# Altium footprint library S7CAS_LIB2023.PcbLib: 100 footprints (part 1 of 7)
Each footprint in its own frame and in the unit in brackets; x right, y up, seen from the top. Pads: shape width x height; smd on the part's side, far side on the other; paste and mask are expansions set on the pad; w line width, h text height; cw(c..) or ccw(c..) is an arc to the next point about the centre after c.
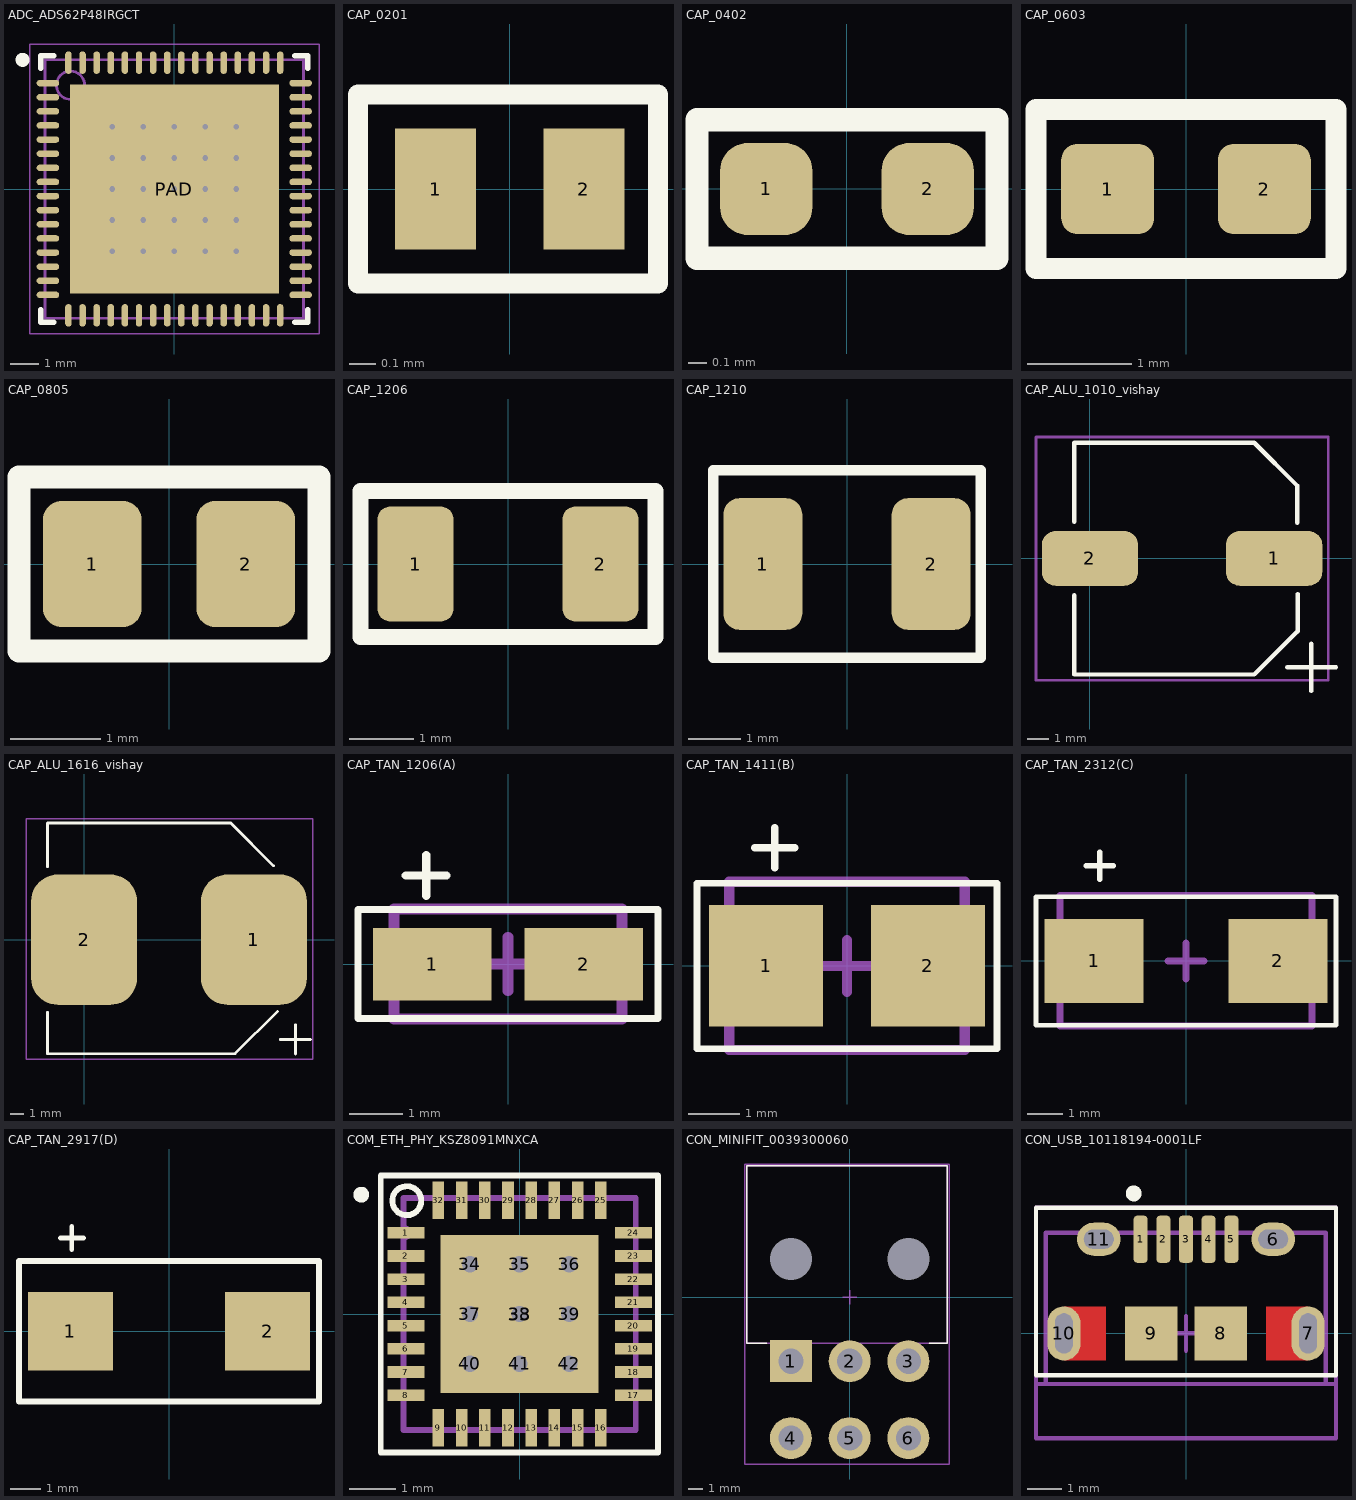
[diagram p0: the footprints below, top view; thin cyan lines are the x and y axes]

## ADC_ADS62P48IRGCT [mm] "QFN, 64-Leads, Body 9,00x9,00mm, Pitch 0,50mm, Thermal Pad 7,40x7,40mm, IPC Medium Density"
height 1
pads (65):
  oval 0.8x0.23 smd mask+0.07: 1(-4.475,3.75) 2(-4.475,3.25) 3(-4.475,2.75) 4(-4.475,2.25) 5(-4.475,1.75) 6(-4.475,1.25) 7(-4.475,0.75) 8(-4.475,0.25) 9(-4.475,-0.25) 10(-4.475,-0.75) 11(-4.475,-1.25) 12(-4.475,-1.75) 13(-4.475,-2.25) 14(-4.475,-2.75) 15(-4.475,-3.25) 16(-4.475,-3.75) 33(4.475,-3.75) 34(4.475,-3.25) 35(4.475,-2.75) 36(4.475,-2.25) 37(4.475,-1.75) 38(4.475,-1.25) 39(4.475,-0.75) 40(4.475,-0.25) 41(4.475,0.25) 42(4.475,0.75) 43(4.475,1.25) 44(4.475,1.75) 45(4.475,2.25) 46(4.475,2.75) 47(4.475,3.25) 48(4.475,3.75)
  oval 0.23x0.8 smd mask+0.07: 17(-3.75,-4.475) 18(-3.25,-4.475) 19(-2.75,-4.475) 20(-2.25,-4.475) 21(-1.75,-4.475) 22(-1.25,-4.475) 23(-0.75,-4.475) 24(-0.25,-4.475) 25(0.25,-4.475) 26(0.75,-4.475) 27(1.25,-4.475) 28(1.75,-4.475) 29(2.25,-4.475) 30(2.75,-4.475) 31(3.25,-4.475) 32(3.75,-4.475) 49(3.75,4.475) 50(3.25,4.475) 51(2.75,4.475) 52(2.25,4.475) 53(1.75,4.475) 54(1.25,4.475) 55(0.75,4.475) 56(0.25,4.475) 57(-0.25,4.475) 58(-0.75,4.475) 59(-1.25,4.475) 60(-1.75,4.475) 61(-2.25,4.475) 62(-2.75,4.475) 63(-3.25,4.475) 64(-3.75,4.475)
  rect 7.4x7.4 smd mask+0.07: PAD(0,0)
via 2.2,-2.2 diameter 0.5 hole 0.2
via 1.1,-2.2 diameter 0.5 hole 0.2
via 0,-2.2 diameter 0.5 hole 0.2
via -1.1,-2.2 diameter 0.5 hole 0.2
via -2.2,-2.2 diameter 0.5 hole 0.2
via 2.2,-1.1 diameter 0.5 hole 0.2
via 1.1,-1.1 diameter 0.5 hole 0.2
via 0,-1.1 diameter 0.5 hole 0.2
via -1.1,-1.1 diameter 0.5 hole 0.2
via -2.2,-1.1 diameter 0.5 hole 0.2
via 2.2,0 diameter 0.5 hole 0.2
via 1.1,0 diameter 0.5 hole 0.2
via 0,0 diameter 0.5 hole 0.2
via -1.1,0 diameter 0.5 hole 0.2
via -2.2,0 diameter 0.5 hole 0.2
via 2.2,1.1 diameter 0.5 hole 0.2
via 1.1,1.1 diameter 0.5 hole 0.2
via 0,1.1 diameter 0.5 hole 0.2
via -1.1,1.1 diameter 0.5 hole 0.2
via -2.2,1.1 diameter 0.5 hole 0.2
via 2.2,2.2 diameter 0.5 hole 0.2
via 1.1,2.2 diameter 0.5 hole 0.2
via 0,2.2 diameter 0.5 hole 0.2
via -1.1,2.2 diameter 0.5 hole 0.2
via -2.2,2.2 diameter 0.5 hole 0.2
Top Overlay:
  circle w0.25: c-5.375,4.575 r0.125
  lines w0.2: -4.725,-4.275 -4.725,-4.725 -4.275,-4.725 ; -4.725,4.275 -4.725,4.725 -4.275,4.725 ; 4.275,-4.725 4.725,-4.725 4.725,-4.275 ; 4.275,4.725 4.725,4.725 4.725,4.275
Mechanical 13:
  circle w0.1: c-3.675,3.675 r0.5
  lines w0.1: -4.575,-4.575 4.575,-4.575 4.575,4.575 -4.575,4.575 -4.575,-4.575
Mechanical 15:
  lines w0.05: -5.125,-5.125 5.125,-5.125 5.125,5.125 -5.125,5.125 -5.125,-5.125
  lines w0.1: -0.5,0 0.5,0 ; 0,-0.5 0,0.5
3D body: height 1, standoff 0.08, extent -4.575,-4.575 4.575,4.575

## CAP_0201 [mil]
pads (2):
  rect 12x18 smd: 1(-11,0) 2(11,0)
Top Overlay:
  lines w3: -22.5,-14 22,-14 22,14 -22.5,14 -22.5,-14
3D body "Cap0201.step": height 11.81, standoff 0, extent -11.81,-5.81 11.81,6

## CAP_0402 [mil]
pads (2):
  rrect60% 20x20 smd: 1(-17.5,0) 2(17.5,0)
Top Overlay:
  lines w5: -32.5,-15 -32.5,15 32.5,15 32.5,-15 -32.5,-15
3D body "Cap0402.step": height 19.68, standoff 0, extent -19.37,-9.69 20,10

## CAP_0603 [mil]
pads (2):
  rrect35% 35x34 smd: 1(-29.5,0) 2(29.5,0)
Top Overlay:
  lines w7.87: -56.5,-30 -56.5,30 56.5,30 56.5,-30 -56.5,-30
3D body "Cap0603.step": height 35.43, standoff 0, extent -31.5,-15.75 31.49,15.75

## CAP_0805 [mil]
pads (2):
  rrect37% 43x55 smd: 1(-33.5,0) 2(33.5,0)
Top Overlay:
  lines w10: -65.5,-38 65.5,-38 65.5,38 -65.5,38 -65.5,-38
3D body "Cap0805.step": height 49.21, standoff 0, extent -38.74,-24.21 40,25

## CAP_1206 [mil]
pads (2):
  rrect34% 47x71 smd: 1(-57,0) 2(57,0)
Top Overlay:
  lines w10: -91,-45 -91,45 91,45 91,-45 -91,-45
3D body "Cap1206.step": height 49.21, standoff 0, extent -61.99,-30.99 64,32

## CAP_1210 [mm]
pads (2):
  rrect40% 1.5x2.5 smd: 1(-1.6,0) 2(1.6,0)
Top Overlay:
  lines w0.2: -2.54,-1.778 -2.54,1.778 2.54,1.778 2.54,-1.778 -2.54,-1.778
3D body "cap1210.step": height 2.5, standoff 0, extent -1.575,-1.245 1.625,1.255

## CAP_ALU_1010_vishay [mm]
pads (2):
  rrect50% 4.4x2.5 smd: 1(8.4,0) 2(0,0)
Top Overlay:
  lines w0.2: -0.725,-5.3 7.5,-5.3 9.45,-3.35 ; -0.725,-5.275 -0.725,-1.675 ; -0.725,1.675 -0.725,5.275 7.5,5.275 9.45,3.325 9.45,1.625 ; 9,-4.975 11.225,-4.975 ; 9.475,-3.325 9.475,-1.625 ; 10.1,-6.05 10.1,-3.9
Drill Guide:
  text "Date : 2013-04-17" at -0.975,-7.95 h0.8
  text "Created by : Alexandre Gaudet" at -1.025,-6.3 h0.8
  text "Verified by : Alexandre Imbeault" at -1,-7.15 h0.8
Mechanical 15:
  lines w0.127: -2.464,-5.563 -2.464,5.537 10.871,5.537 10.871,-5.563 -2.464,-5.563
3D body "User Library-ALU-G.STEP": height 10.2, standoff 0, extent -1.4,-5.175 10.2,5.125

## CAP_ALU_1616_vishay [mm]
pads (2):
  rrect50% 7.8x9.6 smd: 1(12.5,0) 2(0,0)
Top Overlay:
  lines w0.2: -2.7,-5.35 -2.7,-8.4 11.125,-8.4 14.238,-5.288 ; -2.7,5.375 -2.7,8.6 10.8,8.6 13.962,5.437 ; 14.45,-7.35 16.675,-7.35 ; 15.575,-8.425 15.575,-6.275
Drill Guide:
  text "Verified by : Alexandre Imbeault" at 0.476,-10.825 h1
  text "Created by : Alexandre Gaudet" at 0.475,-9.675 h1
  text "Date : 2013-04-17" at 0.475,-11.95 h1
Mechanical 15:
  lines w0.1: -4.275,-8.825 -4.275,8.925 16.85,8.925 16.85,-8.825 -4.275,-8.825
3D body "SW3dPS-capacitor size J16.STEP": height 16.5, standoff -0.01, extent -2.7,-8.4 15,8.6

## CAP_TAN_1206(A) [mm]
pads (2):
  rect 2.2x1.35 smd: 1(-1.41,0) 2(1.41,0)
Top Overlay:
  lines w0.127: -2.794,-1.016 -2.794,1.016 2.794,1.016 2.794,-1.016 -2.794,-1.016
  lines w0.152: -1.905,1.651 -1.143,1.651 ; -1.524,1.27 -1.524,2.032
Mechanical 1:
  lines w0.2: -0.5,0 0,0 ; 0,-0.5 0,0 ; 0,0.5 0,0 ; 0.5,0 0,0 ; -2.125,-1.025 -2.125,1.025 2.125,1.025 2.125,-1.025 -2.125,-1.025
3D body "User Library-Tantalum Capacitor Case A.STEP": height 1.67, standoff 0.02, extent -1.799,-0.827 1.591,0.773

## CAP_TAN_1411(B) [mm]
pads (2):
  rect 2.21x2.35 smd: 1(-1.565,0) 2(1.565,0)
Top Overlay:
  lines w0.127: -2.9,-1.6 2.9,-1.6 2.9,1.6 -2.9,1.6 -2.9,-1.6
  lines w0.152: -1.778,2.286 -1.016,2.286 ; -1.397,1.905 -1.397,2.667
Mechanical 1:
  lines w0.2: -0.5,0 0,0 ; 0,-0.5 0,0 ; 0,0.5 0,0 ; 0.5,0 0,0 ; -2.275,-1.625 2.275,-1.625 2.275,1.625 -2.275,1.625 -2.275,-1.625
3D body "User Library-QT02752.step": height 1.92, standoff 0.01, extent -1.831,-1.4 1.832,1.4

## CAP_TAN_2312(C) [mm]
pads (2):
  rect 2.77x2.35 smd: 1(-2.57,0) 2(2.57,0)
Top Overlay:
  lines w0.127: -4.2,-1.8 -4.2,1.8 4.2,1.8 4.2,-1.8 -4.2,-1.8
  lines w0.152: -2.794,2.667 -2.032,2.667 ; -2.413,2.286 -2.413,3.048
Mechanical 1:
  lines w0.2: -0.5,0 0,0 ; 0,-0.5 0,0 ; 0,0.5 0,0 ; 0.5,0 0,0 ; -3.525,-1.825 -3.525,1.825 3.525,1.825 3.525,-1.825 -3.525,-1.825
3D body "User Library-C_case.STEP": height 2.7, standoff 0, extent -3.05,-1.675 3.05,1.675

## CAP_TAN_2917(D) [mm]
pads (2):
  rect 2.77x2.55 smd: 1(-3.22,0)
  rect 2.77x2.55 smd paste-0.3 mask-0.11: 2(3.22,0)
Top Overlay:
  lines w0.152: -3.556,3.048 -2.794,3.048 ; -3.175,2.667 -3.175,3.429
  lines w0.2: -4.9,-2.3 -4.9,2.3 4.9,2.3 4.9,-2.3 -4.9,-2.3
3D body "CapTantCASE_D.step": height 3.1, standoff 0, extent -3.673,-2.3 3.927,2.3

## COM_ETH_PHY_KSZ8091MNXCA [mm]
pads (42):
  rect 0.8x0.25 smd: 1(-2.45,1.75) 2(-2.45,1.25) 3(-2.45,0.75) 4(-2.45,0.25) 5(-2.45,-0.25) 6(-2.45,-0.75) 7(-2.45,-1.25) 8(-2.45,-1.75) 17(2.45,-1.75) 18(2.45,-1.25) 19(2.45,-0.75) 20(2.45,-0.25) 21(2.45,0.25) 22(2.45,0.75) 23(2.45,1.25) 24(2.45,1.75)
  rect 0.25x0.8 smd: 9(-1.75,-2.45) 10(-1.25,-2.45) 11(-0.75,-2.45) 12(-0.25,-2.45) 13(0.25,-2.45) 14(0.75,-2.45) 15(1.25,-2.45) 16(1.75,-2.45) 25(1.75,2.45) 26(1.25,2.45) 27(0.75,2.45) 28(0.25,2.45) 29(-0.25,2.45) 30(-0.75,2.45) 31(-1.25,2.45) 32(-1.75,2.45)
  rrect0% 3.4x3.4 smd: 33(0,0)
  round 0.6 hole 0.35: 34(-1.07,1.07) 35(0,1.07) 36(1.07,1.07) 37(-1.07,0) 38(0,0) 39(1.07,0) 40(-1.07,-1.07) 41(0,-1.07) 42(1.07,-1.07)
Top Overlay:
  circle w0.2: c-3.41,2.57 r0.07
  circle w0.127: c-2.43,2.44 r0.311
  lines w0.127: -2.99,-2.98 -2.99,2.98 2.98,2.98 2.98,-2.98 -2.99,-2.98
Top Paste:
  region: 0.635,-0.635 1.505,-0.635 1.505,-1.505 0.635,-1.505
  region: -0.435,-0.635 0.435,-0.635 0.435,-1.505 -0.435,-1.505
  region: -1.505,-0.635 -0.635,-0.635 -0.635,-1.505 -1.505,-1.505
  region: -1.505,0.435 -0.635,0.435 -0.635,-0.435 -1.505,-0.435
  region: -0.435,0.435 0.435,0.435 0.435,-0.435 -0.435,-0.435
  region: 0.635,0.435 1.505,0.435 1.505,-0.435 0.635,-0.435
  region: 0.635,1.505 1.505,1.505 1.505,0.635 0.635,0.635
  region: -0.435,1.505 0.435,1.505 0.435,0.635 -0.435,0.635
  region: -1.505,1.505 -0.635,1.505 -0.635,0.635 -1.505,0.635
Mechanical 1:
  lines w0.127: -2.5,-2.5 -2.5,1.625 -2.25,1.75 -2.5,1.875 -2.5,2.5 2.5,2.5 2.5,-2.5 -2.5,-2.5
3D body "QFN-32-5x5 - EQ (2).step": height 0.9, standoff 0.05, extent -2.5,-2.5 2.5,2.5

## CON_MINIFIT_0039300060 [mm]
pads (8):
  round 0 hole 2.997 unplated mask+0.07: 0(-4.2,2.718) 0(4.2,2.718)
  rect 3x3 hole 1.803 mask+0.07: 1(-4.2,-4.583)
  round 3 hole 1.803 mask+0.07: 2(0,-4.583) 3(4.2,-4.583) 4(-4.2,-10.082) 5(0,-10.082) 6(4.2,-10.082)
Top Overlay:
  lines w0.127: -5.925,-3.302 -7.366,-3.302 -7.366,9.398 6.985,9.398 6.985,-3.302 5.7,-3.302
Mechanical 1:
  lines w0.1: -7.366,-3.302 6.985,-3.302 6.985,9.398 -7.366,9.398 -7.366,-3.302
Mechanical 15:
  lines w0.1: -0.5,0 0.5,0 ; 0,-0.5 0,0.5 ; -7.493,-11.938 7.112,-11.938 7.112,9.525 -7.493,9.525 -7.493,-11.938
3D body "039300060.stp": height 11.4, standoff -3.6, extent -7.3,-10.617 6.9,9.317

## CON_USB_10118194-0001LF [mm]
pads (11):
  rrect50% 0.4x1.35 smd paste+0 mask+0.05: 1(-1.3,2.7) 2(-0.65,2.7) 3(0,2.7) 4(0.65,2.7) 5(1.3,2.7)
  rrect100% 1.25x0.95 hole 0.55 slot 0.85 at 0 deg mask+0.05: 6(2.5,2.7) 11(-2.5,2.7)
  rrect100% 0.95x1.55 hole 0.5 slot 1.15 at 90 deg mask+0.05: 7(3.5,0) 10(-3.5,0)
  rect 1.5x1.55 smd paste+0 mask+0.05: 8(1,0) 9(-1,0)
Top Layer:
  region: -2.3,0.775 -3.5,0.775 -3.5,-0.775 -2.3,-0.775
  rectangle: 2.3,-0.775 3.5,0.775
Top Overlay:
  circle w0.254: c-1.499,4.013 r0.1
  lines w0.127: -4.3,-1.2 4.3,-1.2 4.3,0.05 4.3,2.55 4.3,3.6 -4.3,3.6 -4.3,-1.2
Top Paste:
  region: -2.3,0.775 -3.175,0.775 -3.175,-0.775 -2.3,-0.775
  rectangle: 2.3,-0.775 3.175,0.775
Top Solder:
  region: -2.25,0.825 -3.55,0.825 -3.55,-0.825 -2.25,-0.825
  rectangle: 2.25,-0.825 3.55,0.825
Mechanical 1:
  lines w0.127: -4.3,-1.45 -4.025,-1.45 ; 4.025,-1.45 4.3,-1.45 ; -4.025,-1.45 -4,-1.45 4,-1.45 4,2.89 -4.025,2.89 -4.025,-1.45
  text "Board Edge" at -2.9,-2.4 h0.6
Mechanical 15:
  lines w0.127: -0.5,0 0,0 ; 0,-0.5 0,0 ; 0,0.5 0,0 ; 0.5,0 0,0 ; -4.3,-3 4.3,-3 4.3,3.6 -4.3,3.6 -4.3,-3
3D body "10118194c.stp": height 2.72, standoff -0.55, extent -4.025,-2.69 4.025,2.89